# Altium schematic symbol library EFR32BG13.SchLib: 1 symbol
Pins are listed as number, name and electrical type; pins without a type are passive.

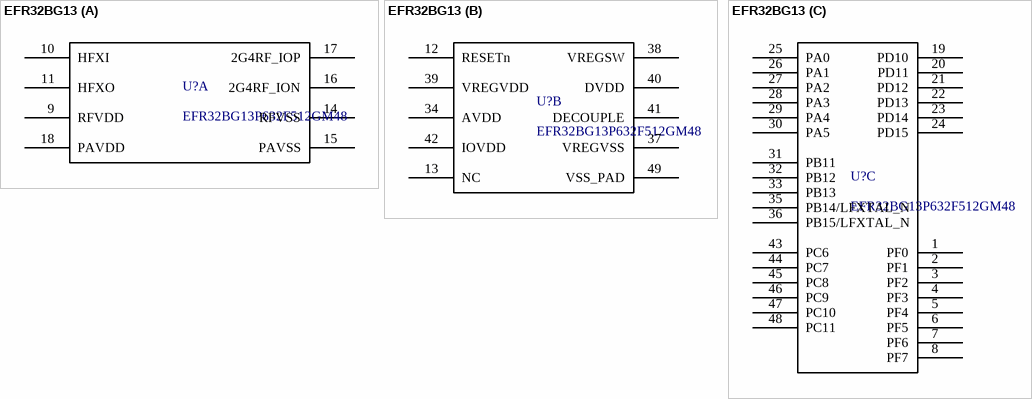
[diagram p0: symbol EFR32BG13]

## EFR32BG13
designator U?, comment EFR32BG13P632F512GM48
MCU; Manufacturer: Silicon Labs; Manufacturer Part Number: EFR32BG13P632F512GM48-BR; CompDescription: Data Sheet; Value: EFR32BG13P632F512GM48; CompURL: https://www.silabs.com/documents/public/data-sheets/efr32bg13-datasheet.pdf; Mouser Part Number: 634-EFR32BG13P632-BR; MouserURL: https://www.mouser.com/ProductDetail/Silicon-Labs/EFR32BG13P632F512GM48-BR?qs=5aG0NVq1C4xCQ7DNn6l3Yw%3D%3D
footprint *QFN50P700X700X90-49N
part A pins: 9 RFVDD, 10 HFXI, 11 HFXO, 14 RFVSS, 15 PAVSS, 16 2G4RF_ION, 17 2G4RF_IOP, 18 PAVDD
part B pins: 12 RESETn, 13 NC, 34 AVDD, 37 VREGVSS, 38 VREGSW, 39 VREGVDD, 40 DVDD, 41 DECOUPLE, 42 IOVDD, 49 VSS_PAD
part C pins: 1 PF0, 2 PF1, 3 PF2, 4 PF3, 5 PF4, 6 PF5, 7 PF6, 8 PF7, 19 PD10, 20 PD11, 21 PD12, 22 PD13, 23 PD14, 24 PD15, 25 PA0, 26 PA1, 27 PA2, 28 PA3, 29 PA4, 30 PA5, 31 PB11, 32 PB12, 33 PB13, 35 PB14/LFXTAL_N, 36 PB15/LFXTAL_N, 43 PC6, 44 PC7, 45 PC8, 46 PC9, 47 PC10, 48 PC11